# Altium footprint library 水泥电阻.PcbLib: 1 footprints
Each footprint in its own frame and in the unit in brackets; x right, y up, seen from the top. Pads: shape width x height; smd on the part's side, far side on the other; paste and mask are expansions set on the pad; w line width, h text height; cw(c..) or ccw(c..) is an arc to the next point about the centre after c.
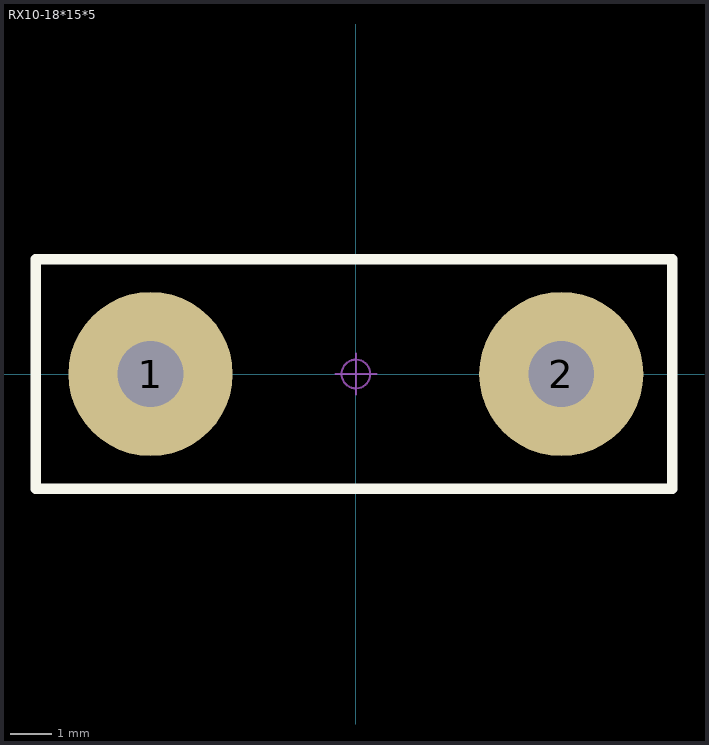
[diagram p0: the footprint, top view; thin cyan lines are the x and y axes]

## RX10-18*15*5 [mm] "18*15*5MM(长*宽*厚)"
pads (2):
  round 4 hole 1.6: 1(-5,0) 2(5,0)
Top Overlay:
  lines w0.254: -7.794,-2.794 7.7,-2.794 7.7,2.794 -7.794,2.794 -7.794,-2.794
Mechanical 15:
  circle w0.05: c0,0 r0.35
  lines w0.05: -0.5,0 0.5,0 ; 0,-0.5 0,0.5
3D body "5W无感水泥电阻.STEP": height 18.05, standoff -3.45, extent -7.5,-2.501 7.5,2.5